# EAGLE library part PIN_2X3_MIRROR (library FaBo-PIN)
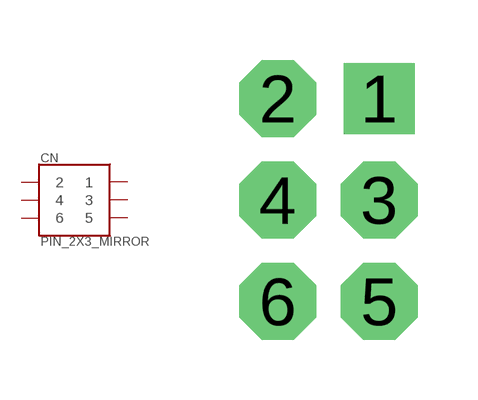
[diagram p28: symbol with the pads of PIN_2X3_MIRROR; footprint PIN_2X3_MIRROR]

Designator prefix CN

## PIN_2X3_MIRROR  [PIN_2X3_MIRROR]
1  1
2  2
3  3
4  4
5  5
6  6

## Footprint PIN_2X3_MIRROR (pad centres in mm)
drill 1.1 pad 1.778 square: 1 1.27,2.54
drill 1.1 pad 1.93 octagon: 2 -1.27,2.54; 3 1.27,0; 4 -1.27,0; 5 1.27,-2.54; 6 -1.27,-2.54